# Altium footprint library CUI_SJ1-3555NG-BE.PcbLib: 1 footprints
Each footprint in its own frame and in the unit in brackets; x right, y up, seen from the top. Pads: shape width x height; smd on the part's side, far side on the other; paste and mask are expansions set on the pad; w line width, h text height; cw(c..) or ccw(c..) is an arc to the next point about the centre after c.
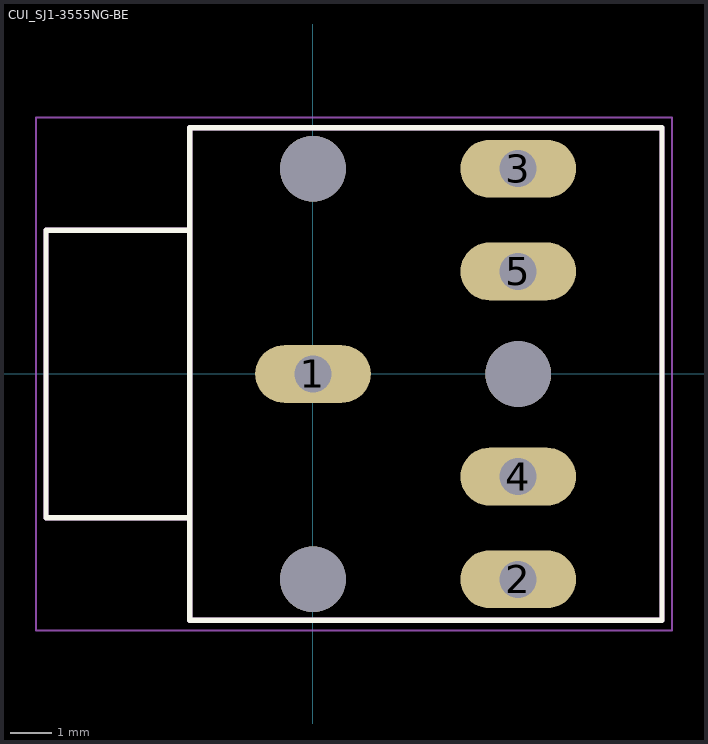
[diagram p0: the footprint, top view; thin cyan lines are the x and y axes]

## CUI_SJ1-3555NG-BE [mm]
pads (8):
  oval 2.816x1.408 hole 0.9: 1(0,0) 2(5,-5) 3(5,5) 4(5,-2.5) 5(5,2.5)
  round 1.6 hole 1.6 unplated: ""(0,-5) ""(0,5) ""(5,0)
Top Overlay:
  lines w0.127: -3,-4 -3,-6 8.5,-6 8.5,6 -3,6 -3,3.6 ; -3,-4 -3,-3.5 -6.5,-3.5 -6.5,3.5 -3,3.5 -3,3.6 ; -3,-4 -3,3.6
Mechanical 1:
  lines w0: -0.75,0 cw(c-0.25,0) -0.25,0.5 0.25,0.5 cw(c0.25,0) 0.75,0 cw(c0.25,0) 0.25,-0.5 -0.25,-0.5 cw(c-0.25,0) -0.75,0 ; 4.25,-5 cw(c4.75,-5) 4.75,-4.5 5.25,-4.5 cw(c5.25,-5) 5.75,-5 cw(c5.25,-5) 5.25,-5.5 4.75,-5.5 cw(c4.75,-5) 4.25,-5 ; 4.25,-2.5 cw(c4.75,-2.5) 4.75,-2 5.25,-2 cw(c5.25,-2.5) 5.75,-2.5 cw(c5.25,-2.5) 5.25,-3 4.75,-3 cw(c4.75,-2.5) 4.25,-2.5 ; 4.25,2.5 cw(c4.75,2.5) 4.75,3 5.25,3 cw(c5.25,2.5) 5.75,2.5 cw(c5.25,2.5) 5.25,2 4.75,2 cw(c4.75,2.5) 4.25,2.5 ; 4.25,5 cw(c4.75,5) 4.75,5.5 5.25,5.5 cw(c5.25,5) 5.75,5 cw(c5.25,5) 5.25,4.5 4.75,4.5 cw(c4.75,5) 4.25,5
Mechanical 13:
  lines w0.127: -3,-3.5 -3,-3.9 -3,-6 8.5,-6 8.5,6 -3,6 -3,3.7 -3,3.5 ; -3,-3.5 -6.5,-3.5 -6.5,3.5 -3,3.5 ; -3,-3.5 -3,3.5
Mechanical 15:
  lines w0.05: -6.75,-6.25 8.75,-6.25 8.75,6.25 -6.75,6.25 -6.75,-6.25